# EAGLE library part USB-B (library gost_con_other)
Розетка USB-B
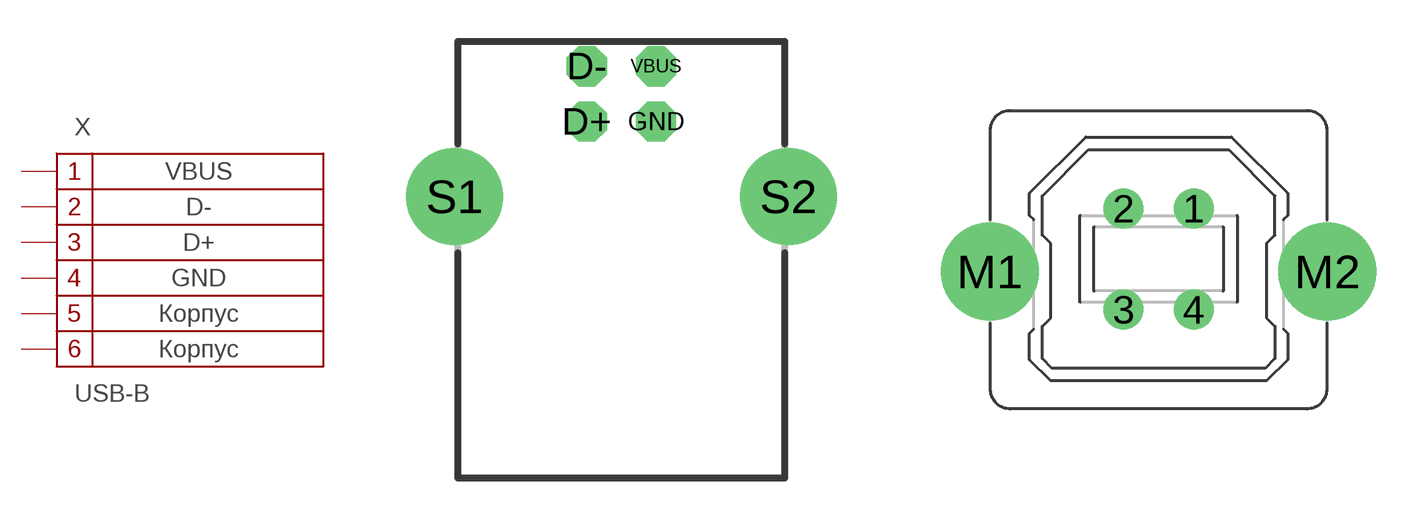
[diagram p1: symbol with the pads of USB-B; footprints USB-B, USB-B-VT]

Designator prefix X

## USB-B-RA  [USB-B]
D+  3
D-  2
GND  4
S1  5
S2  6
VBUS  1

## USB-B-VT  [USB-B-VT]
1  1
2  2
3  3
4  4
M1  5
M2  6

## Footprint USB-B (pad centres in mm)
Разъем USB-B угловой на плату
drill 0.95 octagon: D+ -1.25,2.71; D- -1.25,4.71; GND 1.25,2.71; VBUS 1.25,4.71
drill 2.3 pad 3.5: S1 -6.02,0; S2 6.02,0

## Footprint USB-B-VT (pad centres in mm)
USB B TYPE SINGLE VERTICAL DIP 3.6mm
drill 0.92 pad 1.27: 1 1.25,1.8; 2 -1.25,1.8; 3 -1.25,-1.8; 4 1.25,-1.8
drill 2.3 pad 3.5: M1 -6.02,-0.45; M2 6.02,-0.45